# EAGLE library part JPR-2X3 (library RS-extra-cons)
Jumper Block: 2x3
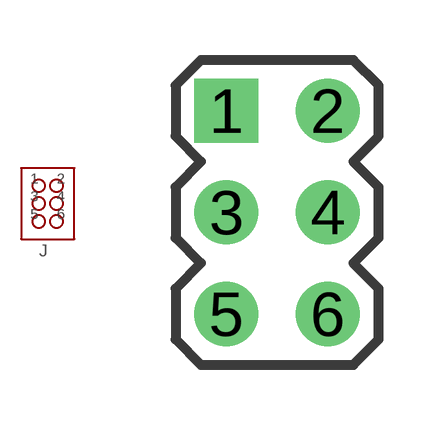
[diagram p10: symbol with the pads of HDR-2X3; footprint HDR-2X3]

Designator prefix J

## JPR-2X3  [HDR-2X3]
1  1
2  2
3  3
4  4
5  5
6  6

## Footprint HDR-2X3 (pad centres in mm)
drill 1.067 square: 1 -1.27,2.54
drill 1.067: 2 1.27,2.54; 3 -1.27,0; 4 1.27,0; 5 -1.27,-2.54; 6 1.27,-2.54